# EAGLE library part MPU-9250-QFN-24 (library InvenSense MPU-9250)
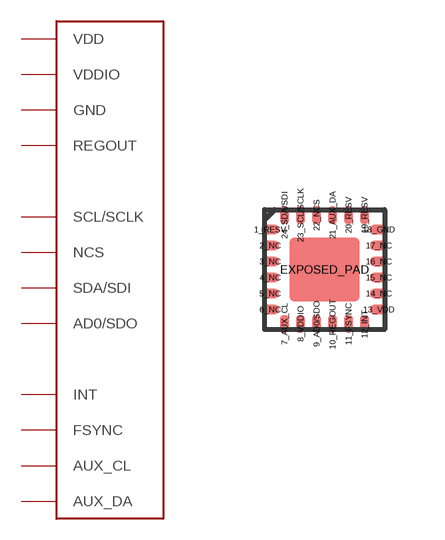
[diagram p0: symbol with the pads of QFN-24; footprint QFN-24]

Designator prefix -

## MPU-9250-QFN-24  [QFN-24]
1_RESV  VDDIO
7_AUX_CL  AUX_CL
8_VDDIO  VDDIO
9_AD0/SDO  AD0/SDO
10_REGOUT  REGOUT
11_FSYNC  FSYNC
12_INT  INT
13_VDD  VDD
18_GND  GND
20_RESV  GND
21_AUX_DA  AUX_DA
22_NCS  NCS
23_SCL/SCLK  SCL/SCLK
24_SDA/SDI  SDA/SDI
EXPOSED_PAD  GND

## Footprint QFN-24 (pad centres in mm)
smd 0.44 x 0.24: 1_RESV -1.36,1; 2_NC -1.36,0.6; 3_NC -1.36,0.2; 4_NC -1.36,-0.2; 5_NC -1.36,-0.6; 6_NC -1.36,-1; 13_VDD 1.36,-1; 14_NC 1.36,-0.6; 15_NC 1.36,-0.2; 16_NC 1.36,0.2; 17_NC 1.36,0.6; 18_GND 1.36,1
smd 0.24 x 0.44: 7_AUX_CL -1,-1.36; 8_VDDIO -0.6,-1.36; 9_AD0/SDO -0.2,-1.36; 10_REGOUT 0.2,-1.36; 11_FSYNC 0.6,-1.36; 12_INT 1,-1.36; 19_RESV 1,1.36; 20_RESV 0.6,1.36; 21_AUX_DA 0.2,1.36; 22_NCS -0.2,1.36; 23_SCL/SCLK -0.6,1.36; 24_SDA/SDI -1,1.36
smd 1.76 x 1.6: EXPOSED_PAD 0,0